# Altium footprint library IC_Digital.PcbLib: 14 footprints
Each footprint in its own frame and in the unit in brackets; x right, y up, seen from the top. Pads: shape width x height; smd on the part's side, far side on the other; paste and mask are expansions set on the pad; w line width, h text height; cw(c..) or ccw(c..) is an arc to the next point about the centre after c.
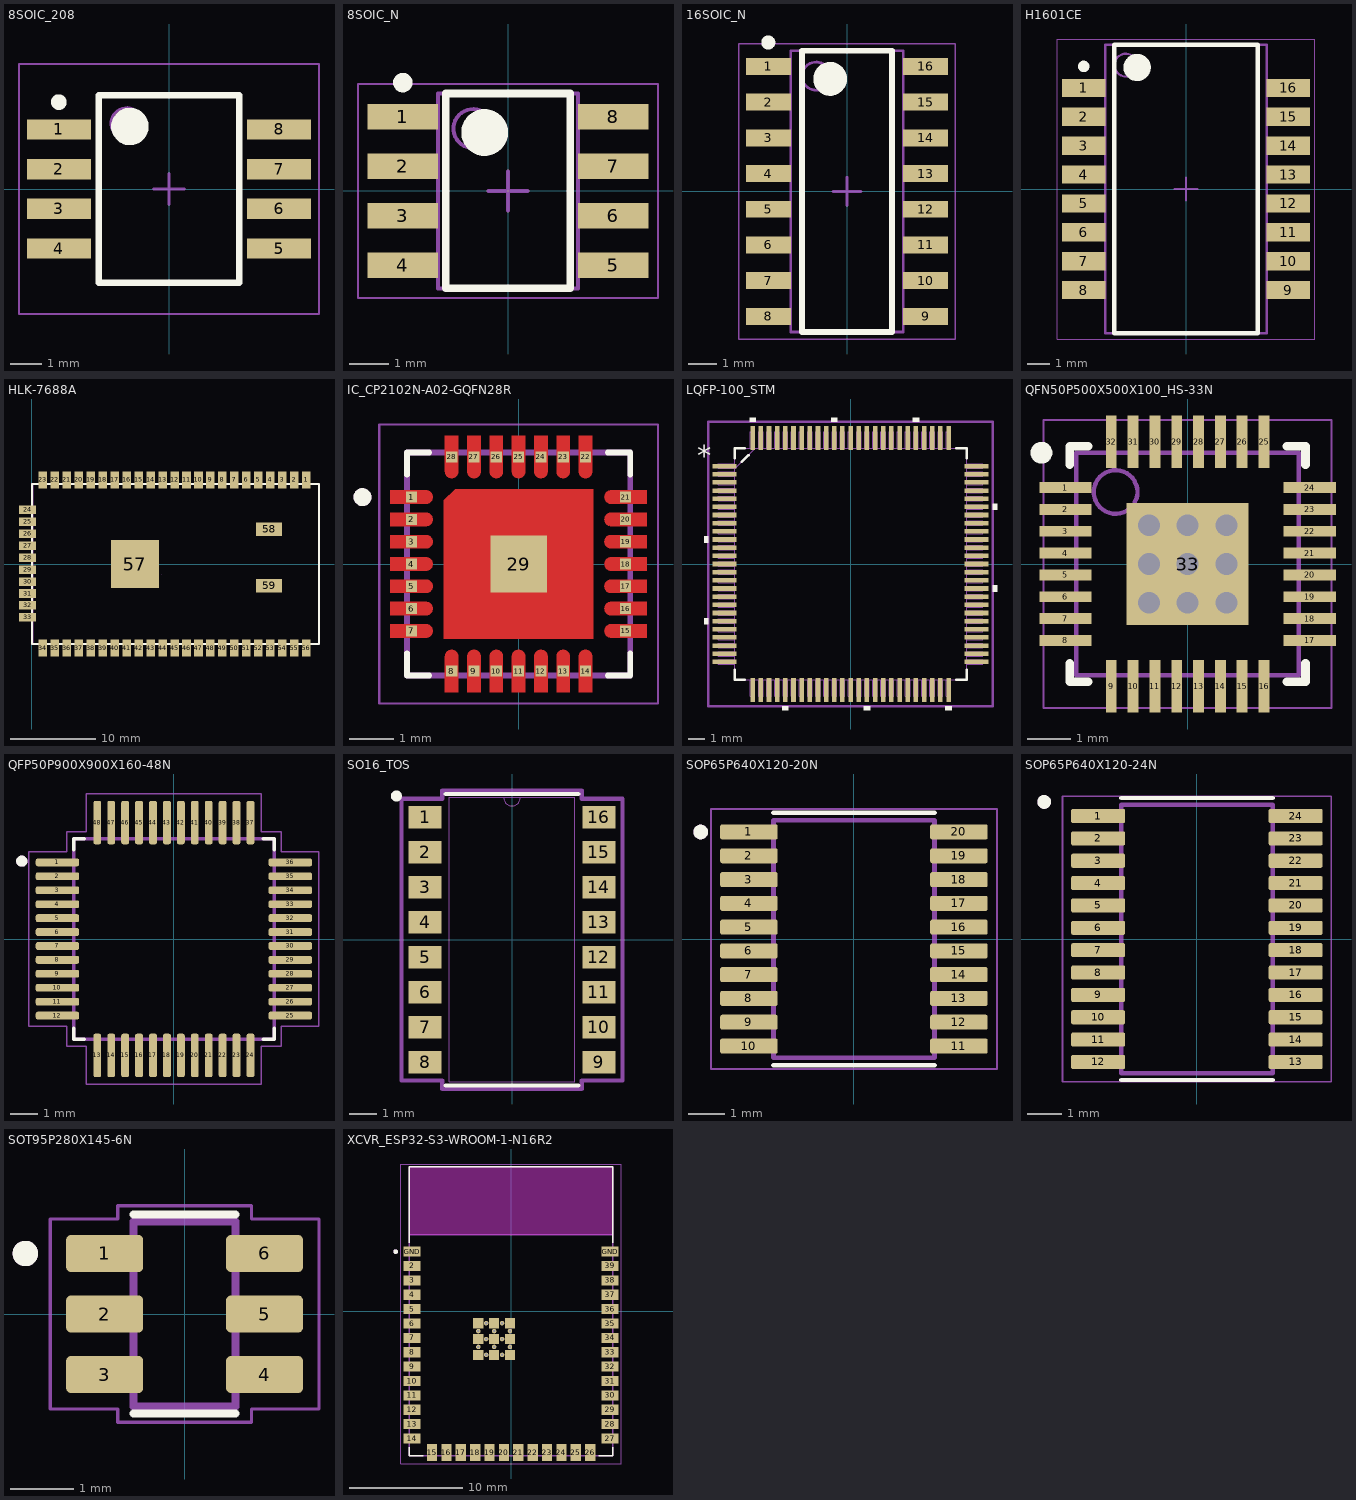
[diagram p0: the footprints below, top view; thin cyan lines are the x and y axes]

## 8SOIC_208 [mm] "SOIC, 8-Leads, Body 5,23x5,23mm, Pitch 1,27mm, IPC Medium Density"
height 1.95
pads (8):
  rect 2.05x0.65 smd: 1(-3.525,1.905) 2(-3.525,0.635) 3(-3.525,-0.635) 4(-3.525,-1.905) 5(3.525,-1.905) 6(3.525,-0.635) 7(3.525,0.635) 8(3.525,1.905)
Top Overlay:
  circle w0.6: c-1.25,2 r0.3
  circle w0.25: c-3.525,2.78 r0.125
  lines w0.2: -2.25,-3 2.25,-3 2.25,3 -2.25,3 -2.25,-3
Mechanical 13:
  circle w0.1: c-1.35,2.1 r0.5
  lines w0.1: -2.25,-3 2.25,-3 2.25,3 -2.25,3 -2.25,-3
Mechanical 15:
  lines w0.05: -4.8,-4 4.8,-4 4.8,4 -4.8,4 -4.8,-4
  lines w0.1: -0.5,0 0.5,0 ; 0,-0.5 0,0.5
3D body: height 1.95, standoff 0.01, extent -2.65,-2.65 2.65,2.65

## 8SOIC_N [mm] "SOIC, 8-Leads, Body 4,90x3,90mm, Pitch 1,27mm, IPC Medium Density"
height 1.75
pads (8):
  rect 1.8x0.65 smd: 1(-2.7,1.905) 2(-2.7,0.635) 3(-2.7,-0.635) 4(-2.7,-1.905) 5(2.7,-1.905) 6(2.7,-0.635) 7(2.7,0.635) 8(2.7,1.905)
Top Overlay:
  circle w0.25: c-2.7,2.78 r0.125
  circle w0.6: c-0.6,1.5 r0.3
  lines w0.2: -1.6,-2.5 -1.6,2.5 1.6,2.5 1.6,-2.5 -1.6,-2.5
Mechanical 13:
  circle w0.1: c-0.9,1.6 r0.5
  lines w0.1: -1.8,-2.5 -1.8,2.5 1.8,2.5 1.8,-2.5 -1.8,-2.5
Mechanical 15:
  lines w0.05: -3.85,-2.75 -3.85,2.75 3.85,2.75 3.85,-2.75 -3.85,-2.75
  lines w0.1: -0.5,0 0.5,0 ; 0,-0.5 0,0.5
3D body: height 1.75, standoff 0.01, extent -2,-2.5 2,2.5

## 16SOIC_N [mm] "SOIC, 16-Leads, Body 9,90x3,90mm, Pitch 1,27mm, IPC Medium Density"
height 1.75
pads (16):
  rect 1.6x0.6 smd: 1(-2.8,4.445) 2(-2.8,3.175) 3(-2.8,1.905) 4(-2.8,0.635) 5(-2.8,-0.635) 6(-2.8,-1.905) 7(-2.8,-3.175) 8(-2.8,-4.445) 9(2.8,-4.445) 10(2.8,-3.175) 11(2.8,-1.905) 12(2.8,-0.635) 13(2.8,0.635) 14(2.8,1.905) 15(2.8,3.175) 16(2.8,4.445)
Top Overlay:
  circle w0.25: c-2.8,5.295 r0.125
  circle w0.6: c-0.6,4 r0.3
  lines w0.2: -1.6,-5 -1.6,5 1.6,5 1.6,-5 -1.6,-5
Mechanical 13:
  circle w0.1: c-1.1,4.1 r0.5
  lines w0.1: -2,-5 -2,5 2,5 2,-5 -2,-5
Mechanical 15:
  lines w0.05: -3.85,-5.25 -3.85,5.25 3.85,5.25 3.85,-5.25 -3.85,-5.25
  lines w0.1: -0.5,0 0.5,0 ; 0,-0.5 0,0.5
3D body: height 1.75, standoff 0.01, extent -2,-5 2,5

## H1601CE [mm] "SOIC, 16-Leads, Body 12.70x7.11mm, Pitch 1.27mm, IPC Medium Density"
height 6
pads (16):
  rect 1.9x0.8 smd: 1(-4.5,4.445) 2(-4.5,3.175) 3(-4.5,1.905) 4(-4.5,0.635) 5(-4.5,-0.635) 6(-4.5,-1.905) 7(-4.5,-3.175) 8(-4.5,-4.445) 9(4.5,-4.445) 10(4.5,-3.175) 11(4.5,-1.905) 12(4.5,-0.635) 13(4.5,0.635) 14(4.5,1.905) 15(4.5,3.175) 16(4.5,4.445)
Top Overlay:
  circle w0.6: c-2.15,5.35 r0.3
  circle w0.25: c-4.5,5.395 r0.125
  lines w0.2: -3.15,-6.35 3.15,-6.35 3.15,6.35 -3.15,6.35 -3.15,-6.35
Mechanical 13:
  circle w0.1: c-2.65,5.45 r0.5
  lines w0.1: -3.55,-6.35 3.55,-6.35 3.55,6.35 -3.55,6.35 -3.55,-6.35
Mechanical 15:
  lines w0.05: -5.675,-6.6 5.675,-6.6 5.675,6.6 -5.675,6.6 -5.675,-6.6
  lines w0.1: -0.5,0 0.5,0 ; 0,-0.5 0,0.5
3D body: height 6, standoff 0.13, extent -3.55,-6.35 3.55,6.35

## HLK-7688A [mm]
pads (59):
  rect 1x2 smd paste+0 mask+0.051: 1(32.101,9.85) 2(30.701,9.85) 3(29.297,9.85) 4(27.9,9.85) 5(26.5,9.85) 6(25.098,9.85) 7(23.698,9.85) 8(22.299,9.85) 9(20.897,9.85) 10(19.5,9.85) 11(18.098,9.85) 12(16.701,9.85) 13(15.299,9.85) 14(13.897,9.85) 15(12.5,9.85) 16(11.1,9.85) 17(9.701,9.85) 18(8.301,9.85) 19(6.901,9.85) 20(5.497,9.85) 21(4.1,9.85) 22(2.698,9.85) 23(1.301,9.85) 34(1.301,-9.85) 35(2.698,-9.848) 36(4.1,-9.848) 37(5.497,-9.848) 38(6.901,-9.848) 39(8.301,-9.848) 40(9.701,-9.848) 41(11.1,-9.848) 42(12.5,-9.848) 43(13.897,-9.848) 44(15.299,-9.848) 45(16.701,-9.848) 46(18.098,-9.848) 47(19.5,-9.848) 48(20.897,-9.848) 49(22.299,-9.848) 50(23.698,-9.848) 51(25.098,-9.848) 52(26.5,-9.848) 53(27.9,-9.848) 54(29.297,-9.848) 55(30.701,-9.848) 56(32.101,-9.848)
  rect 2x1 smd paste+0 mask+0.051: 24(-0.499,6.349) 25(-0.5,4.95) 26(-0.5,3.551) 27(-0.5,2.151) 28(-0.5,0.752) 29(-0.5,-0.648) 30(-0.5,-2.052) 31(-0.5,-3.452) 32(-0.503,-4.852) 33(-0.5,-6.251)
  rect 5.6x5.6 smd paste+0 mask+0.051: 57(12.051,0)
  rect 3.1x1.6 smd paste+0 mask+0.051: 58(27.749,4.05) 59(27.749,-2.55)
Top Overlay:
  lines w0.254: -0.001,-9.35 33.599,-9.35 33.599,8.679 33.599,9.35 32.951,9.35 0.488,9.35 0,9.35 0,-9.35
Mechanical 1:
  lines w0.254: 0.051,-9.271 0.051,9.271
Mechanical 15:
  lines w0.003: 15.125,-1.187 15.126,-1.187
3D body: height 1, standoff 0, extent 0.051,-9.271 33.579,9.271
3D body: height 2, standoff 0.5, extent 0.837,6.495 2.829,8.491
3D body: height 1.5, standoff 0.5, extent 1.067,-8.382 1.702,-7.366
3D body: height 2.8, standoff 1, extent 0.432,-8.763 33.198,8.763

## IC_CP2102N-A02-GQFN28R [mm]
height 0.8
pads (29):
  rect 0.25x0.25 smd paste-1 mask+0: 1(-2.4,1.5) 2(-2.4,1) 3(-2.4,0.5) 4(-2.4,0) 5(-2.4,-0.5) 6(-2.4,-1) 7(-2.4,-1.5) 8(-1.5,-2.4) 9(-1,-2.4) 10(-0.5,-2.4) 11(0,-2.4) 12(0.5,-2.4) 13(1,-2.4) 14(1.5,-2.4) 15(2.4,-1.5) 16(2.4,-1) 17(2.4,-0.5) 18(2.4,0) 19(2.4,0.5) 20(2.4,1) 21(2.4,1.5) 22(1.5,2.4) 23(1,2.4) 24(0.5,2.4) 25(0,2.4) 26(-0.5,2.4) 27(-1,2.4) 28(-1.5,2.4)
  rect 1.27x1.27 smd paste+0.424 mask+0: 29(0,0)
Top Layer:
  drawing of 29 lines, arcs and shapes, not listed
Top Overlay:
  circle w0.2: c-3.5,1.5 r0.1
  lines w0.127: -2.5,-2 -2.5,-2.5 -2,-2.5 ; -2.5,2 -2.5,2.5 -2,2.5 ; 2,-2.5 2.5,-2.5 2.5,-2 ; 2,2.5 2.5,2.5 2.5,2
Top Paste:
  drawing of 28 lines, arcs and shapes, not listed
Top Solder:
  drawing of 29 lines, arcs and shapes, not listed
Mechanical 13:
  circle w0.2: c-3.5,1.5 r0.1
  lines w0.127: -2.5,-2.5 -2.5,2.5 2.5,2.5 2.5,-2.5 -2.5,-2.5
Mechanical 15:
  lines w0.05: -3.125,-3.125 -3.125,3.125 3.125,3.125 3.125,-3.125 -3.125,-3.125
3D body "step_temp.STEP": height 0.8, standoff 0, extent -2.5,-2.5 2.5,2.5

## LQFP-100_STM [mil]
pads (100):
  rect 58x11 smd paste+0 mask+0: 1(-304,236.22) 2(-304,216.54) 3(-304,196.85) 4(-304,177.17) 5(-304,157.48) 6(-304,137.8) 7(-304,118.11) 8(-304,98.43) 9(-304,78.74) 10(-304,59.06) 11(-304,39.37) 12(-304,19.69) 13(-304,0) 14(-304,-19.68) 15(-304,-39.37) 16(-304,-59.06) 17(-304,-78.74) 18(-304,-98.43) 19(-304,-118.11) 20(-304,-137.8) 21(-304,-157.48) 22(-304,-177.17) 23(-304,-196.85) 24(-304,-216.54) 25(-304,-236.22) 51(304,-236.22) 52(304,-216.54) 53(304,-196.85) 54(304,-177.17) 55(304,-157.48) 56(304,-137.8) 57(304,-118.11) 58(304,-98.43) 59(304,-78.74) 60(304,-59.06) 61(304,-39.37) 62(304,-19.68) 63(304,0) 64(304,19.68) 65(304,39.37) 66(304,59.06) 67(304,78.74) 68(304,98.43) 69(304,118.11) 70(304,137.8) 71(304,157.48) 72(304,177.17) 73(304,196.85) 74(304,216.54) 75(304,236.22)
  rect 11x58 smd paste+0 mask+0: 26(-236.22,-304) 27(-216.54,-304) 28(-196.85,-304) 29(-177.17,-304) 30(-157.48,-304) 31(-137.8,-304) 32(-118.11,-304) 33(-98.43,-304) 34(-78.74,-304) 35(-59.06,-304) 36(-39.37,-304) 37(-19.68,-304) 38(0,-304) 39(19.68,-304) 40(39.37,-304) 41(59.06,-304) 42(78.74,-304) 43(98.43,-304) 44(118.11,-304) 45(137.8,-304) 46(157.48,-304) 47(177.17,-304) 48(196.85,-304) 49(216.54,-304) 50(236.22,-304) 76(236.22,304) 77(216.54,304) 78(196.85,304) 79(177.17,304) 80(157.48,304) 81(137.8,304) 82(118.11,304) 83(98.43,304) 84(78.74,304) 85(59.06,304) 86(39.37,304) 87(19.68,304) 88(0,304) 89(-19.68,304) 90(-39.37,304) 91(-59.06,304) 92(-78.74,304) 93(-98.43,304) 94(-118.11,304) 95(-137.8,304) 96(-157.48,304) 97(-177.17,304) 98(-196.85,304) 99(-216.54,304) 100(-236.22,304)
Top Overlay:
  region: -343,66.56 -353,66.56 -353,51.56 -343,51.56
  region: -343,-130.3 -353,-130.3 -353,-145.3 -343,-145.3
  region: -149.98,-343 -164.98,-343 -164.98,-353 -149.98,-353
  region: 46.87,-343 31.87,-343 31.87,-353 46.87,-353
  region: 243.72,-343 228.72,-343 228.72,-353 243.72,-353
  region: 343,-51.56 353,-51.56 353,-66.56 343,-66.56
  region: 343,145.3 353,145.3 353,130.3 343,130.3
  region: 164.98,343 149.98,343 149.98,353 164.98,353
  region: -31.87,343 -46.87,343 -46.87,353 -31.87,353
  region: -228.72,343 -243.72,343 -243.72,353 -228.72,353
  lines w6: -279.5,-254.82 -279.5,-279.5 -254.82,-279.5 ; -279.5,254.82 -279.5,279.5 -254.82,279.5 ; -262.72,246.28 -246.28,262.72 ; 254.82,-279.5 279.5,-279.5 279.5,-254.82 ; 254.82,279.5 279.5,279.5 279.5,254.82
  text "*" at -370.5,236.06 h50
Mechanical 13:
  drawing of 405 lines, arcs and shapes, not listed
  text "*" at -370.5,236.06 h50
Mechanical 15:
  lines w6: -343,-343 -343,343 343,343 343,-343 -343,-343
3D body "LQFP-100_STM.step": height 63.11, standoff 0, extent -319.02,-319.02 319.02,319.02

## QFN50P500X500X100_HS-33N [mm] "QFN, 32-Leads, Body 5,00x5,00mm, Pitch 0,50mm, Thermal Pad 3,10x3,10mm, IPC Medium Density"
height 1
pads (33):
  rect 1.2x0.25 smd: 1(-2.8,1.75) 2(-2.8,1.25) 3(-2.8,0.75) 4(-2.8,0.25) 5(-2.8,-0.25) 6(-2.8,-0.75) 7(-2.8,-1.25) 8(-2.8,-1.75) 17(2.8,-1.75) 18(2.8,-1.25) 19(2.8,-0.75) 20(2.8,-0.25) 21(2.8,0.25) 22(2.8,0.75) 23(2.8,1.25) 24(2.8,1.75)
  rect 0.25x1.2 smd: 9(-1.75,-2.8) 10(-1.25,-2.8) 11(-0.75,-2.8) 12(-0.25,-2.8) 13(0.25,-2.8) 14(0.75,-2.8) 15(1.25,-2.8) 16(1.75,-2.8) 25(1.75,2.8) 26(1.25,2.8) 27(0.75,2.8) 28(0.25,2.8) 29(-0.25,2.8) 30(-0.75,2.8) 31(-1.25,2.8) 32(-1.75,2.8)
  rect 2.8x2.8 smd: 33(0,0)
via 0,0 diameter 0.8 hole 0.5
via 0,0.889 diameter 0.8 hole 0.5
via 0.889,0.889 diameter 0.8 hole 0.5
via -0.889,0.889 diameter 0.8 hole 0.5
via -0.889,0 diameter 0.8 hole 0.5
via -0.889,-0.889 diameter 0.8 hole 0.5
via 0,-0.889 diameter 0.8 hole 0.5
via 0.889,-0.889 diameter 0.8 hole 0.5
via 0.889,0 diameter 0.8 hole 0.5
Top Overlay:
  circle w0.25: c-3.35,2.55 r0.125
  lines w0.2: -2.7,-2.275 -2.7,-2.7 -2.275,-2.7 ; -2.7,2.275 -2.7,2.7 -2.275,2.7 ; 2.275,-2.7 2.7,-2.7 2.7,-2.275 ; 2.275,2.7 2.7,2.7 2.7,2.275
Mechanical 13:
  circle w0.1: c-1.65,1.65 r0.5
  lines w0.1: -2.55,-2.55 2.55,-2.55 2.55,2.55 -2.55,2.55 -2.55,-2.55
Mechanical 15:
  lines w0.05: -3.3,-3.3 3.3,-3.3 3.3,3.3 -3.3,3.3 -3.3,-3.3
  lines w0.1: -0.5,0 0.5,0 ; 0,-0.5 0,0.5
3D body: height 1, standoff 0.1, extent -2.55,-2.55 2.55,2.55

## QFP50P900X900X160-48N [mm]
pads (48):
  rrect50% 1.56x0.28 smd: 1(-4.18,2.75) 2(-4.18,2.25) 3(-4.18,1.75) 4(-4.18,1.25) 5(-4.18,0.75) 6(-4.18,0.25) 7(-4.18,-0.25) 8(-4.18,-0.75) 9(-4.18,-1.25) 10(-4.18,-1.75) 11(-4.18,-2.25) 12(-4.18,-2.75) 25(4.18,-2.75) 26(4.18,-2.25) 27(4.18,-1.75) 28(4.18,-1.25) 29(4.18,-0.75) 30(4.18,-0.25) 31(4.18,0.25) 32(4.18,0.75) 33(4.18,1.25) 34(4.18,1.75) 35(4.18,2.25) 36(4.18,2.75)
  rrect50% 0.28x1.56 smd: 13(-2.75,-4.18) 14(-2.25,-4.18) 15(-1.75,-4.18) 16(-1.25,-4.18) 17(-0.75,-4.18) 18(-0.25,-4.18) 19(0.25,-4.18) 20(0.75,-4.18) 21(1.25,-4.18) 22(1.75,-4.18) 23(2.25,-4.18) 24(2.75,-4.18) 37(2.75,4.18) 38(2.25,4.18) 39(1.75,4.18) 40(1.25,4.18) 41(0.75,4.18) 42(0.25,4.18) 43(-0.25,4.18) 44(-0.75,4.18) 45(-1.25,4.18) 46(-1.75,4.18) 47(-2.25,4.18) 48(-2.75,4.18)
Top Overlay:
  circle w0.2: c-5.461,2.794 r0.1
  lines w0.127: -3.6,-3.21 -3.6,-3.6 -3.21,-3.6 ; -3.6,3.21 -3.6,3.6 -3.21,3.6 ; 3.21,-3.6 3.6,-3.6 3.6,-3.21 ; 3.21,3.6 3.6,3.6 3.6,3.21
Mechanical 13:
  circle w0.2: c-5.461,2.794 r0.1
  lines w0.127: -3.6,-3.6 3.6,-3.6 3.6,3.6 -3.6,3.6 -3.6,-3.6
Mechanical 15:
  lines w0.05: -5.21,-3.14 -5.21,3.14 -3.85,3.14 -3.85,3.85 -3.14,3.85 -3.14,5.21 3.14,5.21 3.14,3.85 3.85,3.85 3.85,3.14 5.21,3.14 5.21,-3.14 3.85,-3.14 3.85,-3.85 3.14,-3.85 3.14,-5.21 -3.14,-5.21 -3.14,-3.85 -3.85,-3.85 -3.85,-3.14 -5.21,-3.14
3D body "step_temp.STEP": height 1.6, standoff 0, extent -4.5,-4.5 4.5,4.5

## SO16_TOS [mil]
pads (16):
  rect 47x32 smd paste+0 mask+0: 1(-124.02,175) 2(-124.02,125) 3(-124.02,75) 4(-124.02,25) 5(-124.02,-25) 6(-124.02,-75) 7(-124.02,-125) 8(-124.02,-175) 9(124.02,-175) 10(124.02,-125) 11(124.02,-75) 12(124.02,-25) 13(124.02,25) 14(124.02,75) 15(124.02,125) 16(124.02,175)
Top Overlay:
  circle w7.87: c-165,205 r3.94
  lines w6: -94.5,-208 94.5,-208 ; -94.5,208 94.5,208
Mechanical 13:
  lines w0: -12,203 ccw(c0,203) 12,203
  lines w1: -89.5,-203 -89.5,203 89.5,203 89.5,-203 -89.5,-203
Mechanical 15:
  lines w6: -157.52,-201 -99.5,-201 -99.5,-213 99.5,-213 99.5,-201 157.52,-201 157.52,201 99.5,201 99.5,213 -99.5,213 -99.5,201 -157.52,201 -157.52,-201
3D body "SO16_TOS.step": height 90.98, standoff 0, extent -133.74,-202.99 133.74,202.99

## SOP65P640X120-20N [mm]
pads (20):
  rrect25% 1.57x0.41 smd: 1(-2.87,2.925) 2(-2.87,2.275) 3(-2.87,1.625) 4(-2.87,0.975) 5(-2.87,0.325) 6(-2.87,-0.325) 7(-2.87,-0.975) 8(-2.87,-1.625) 9(-2.87,-2.275) 10(-2.87,-2.925) 11(2.87,-2.925) 12(2.87,-2.275) 13(2.87,-1.625) 14(2.87,-0.975) 15(2.87,-0.325) 16(2.87,0.325) 17(2.87,0.975) 18(2.87,1.625) 19(2.87,2.275) 20(2.87,2.925)
Top Overlay:
  circle w0.2: c-4.19,2.925 r0.1
  lines w0.127: -2.2,-3.45 2.2,-3.45 ; -2.2,3.45 2.2,3.45
Mechanical 13:
  circle w0.2: c-4.19,2.925 r0.1
  lines w0.127: -2.2,-3.25 -2.2,3.25 2.2,3.25 2.2,-3.25 -2.2,-3.25
Mechanical 15:
  lines w0.05: -3.91,-3.55 -3.91,3.55 3.91,3.55 3.91,-3.55 -3.91,-3.55
3D body "step_temp.STEP": height 1.2, standoff 0, extent -3.2,-3.25 3.2,3.25

## SOP65P640X120-24N [mm]
height 1.2
pads (24):
  rrect25% 1.57x0.41 smd: 1(-2.87,3.575) 2(-2.87,2.925) 3(-2.87,2.275) 4(-2.87,1.625) 5(-2.87,0.975) 6(-2.87,0.325) 7(-2.87,-0.325) 8(-2.87,-0.975) 9(-2.87,-1.625) 10(-2.87,-2.275) 11(-2.87,-2.925) 12(-2.87,-3.575) 13(2.87,-3.575) 14(2.87,-2.925) 15(2.87,-2.275) 16(2.87,-1.625) 17(2.87,-0.975) 18(2.87,-0.325) 19(2.87,0.325) 20(2.87,0.975) 21(2.87,1.625) 22(2.87,2.275) 23(2.87,2.925) 24(2.87,3.575)
Top Overlay:
  circle w0.2: c-4.44,3.985 r0.1
  lines w0.127: -2.2,-4.1 2.2,-4.1 ; -2.2,4.1 2.2,4.1
Mechanical 13:
  circle w0.2: c-4.44,3.985 r0.1
  lines w0.127: -2.2,-3.9 -2.2,3.9 2.2,3.9 2.2,-3.9 -2.2,-3.9
Mechanical 15:
  lines w0.05: -3.905,-4.15 -3.905,4.15 3.905,4.15 3.905,-4.15 -3.905,-4.15
3D body "step_temp.STEP": height 1.2, standoff 0, extent -3.2,-3.9 3.2,3.9

## SOT95P280X145-6N [mm]
pads (6):
  rrect25% 1.21x0.58 smd: 1(-1.255,0.95) 2(-1.255,0) 3(-1.255,-0.95) 4(1.255,-0.95) 5(1.255,0) 6(1.255,0.95)
Top Overlay:
  circle w0.2: c-2.5,0.95 r0.1
  lines w0.127: -0.8,-1.56 0.8,-1.56 ; -0.8,1.56 0.8,1.56
Mechanical 13:
  circle w0.2: c-2.5,0.95 r0.1
  lines w0.127: -0.8,-1.45 0.8,-1.45 0.8,1.45 -0.8,1.45 -0.8,-1.45
Mechanical 15:
  lines w0.05: -2.11,-1.49 -1.05,-1.49 -1.05,-1.7 1.05,-1.7 1.05,-1.49 2.11,-1.49 2.11,1.49 1.05,1.49 1.05,1.7 -1.05,1.7 -1.05,1.49 -2.11,1.49 -2.11,-1.49
3D body "step_temp.STEP": height 1.45, standoff 0, extent -1.4,-1.45 1.4,1.45

## XCVR_ESP32-S3-WROOM-1-N16R2 [mm]
height 3.25
pads (61):
  rect 1.5x0.9 smd: 2(-8.75,3.99) 3(-8.75,2.72) 4(-8.75,1.45) 5(-8.75,0.18) 6(-8.75,-1.09) 7(-8.75,-2.36) 8(-8.75,-3.63) 9(-8.75,-4.9) 10(-8.75,-6.17) 11(-8.75,-7.44) 12(-8.75,-8.71) 13(-8.75,-9.98) 14(-8.75,-11.25) 27(8.75,-11.25) 28(8.75,-9.98) 29(8.75,-8.71) 30(8.75,-7.44) 31(8.75,-6.17) 32(8.75,-4.9) 33(8.75,-3.63) 34(8.75,-2.36) 35(8.75,-1.09) 36(8.75,0.18) 37(8.75,1.45) 38(8.75,2.72) 39(8.75,3.99) GND(-8.75,5.26) GND(8.75,5.26)
  rect 0.9x1.5 smd: 15(-6.985,-12.5) 16(-5.715,-12.5) 17(-4.445,-12.5) 18(-3.175,-12.5) 19(-1.905,-12.5) 20(-0.635,-12.5) 21(0.635,-12.5) 22(1.905,-12.5) 23(3.175,-12.5) 24(4.445,-12.5) 25(5.715,-12.5) 26(6.985,-12.5)
  round 0.4 hole 0.2 mask+0: 41_10(-1.5,-1.76) 41_11(-2.9,-1.76) 41_12(-0.1,-1.76) 41_13(-2.9,-3.16) 41_14(-1.5,-3.16) 41_15(-0.1,-3.16) 41_16(-2.2,-1.06) 41_17(-0.8,-1.06) 41_18(-2.2,-2.46) 41_19(-0.8,-2.46) 41_20(-2.2,-3.86) 41_21(-0.8,-3.86)
  rect 0.9x0.9 smd: GND(-2.9,-3.86) GND(-2.9,-2.46) GND(-2.9,-1.06) GND(-1.5,-3.86) GND(-1.5,-2.46) GND(-1.5,-1.06) GND(-0.1,-3.86) GND(-0.1,-2.46) GND(-0.1,-1.06)
Top Overlay:
  circle w0.2: c-10.2,5.26 r0.1
  lines w0.127: -9,-12.02 -9,-12.75 -7.755,-12.75 ; -9,6.03 -9,12.75 9,12.75 9,6.03 ; 7.755,-12.75 9,-12.75 9,-12.02
Keep-Out Layer:
  region: 9,6.75 -9,6.75 -9,12.75 9,12.75
  region: 9,6.75 -9,6.75 -9,12.75 9,12.75
Mechanical 13:
  circle w0.2: c-10.2,5.26 r0.1
  lines w0.127: -9,6.75 9,6.75 ; -9,6.75 -9,12.75 9,12.75 9,6.75 ; -9,6.75 -9,-12.75 9,-12.75 9,6.75
  text "ANTENNA" at -4.5,9.5 h1.27
Mechanical 15:
  lines w0.05: -9.75,-13.5 9.75,-13.5 9.75,13 -9.75,13 -9.75,-13.5
3D body "step_temp.STEP": height 3.25, standoff 0, extent -9,-12.75 9,12.75